# EAGLE library part PIC16F628A (library Custom)
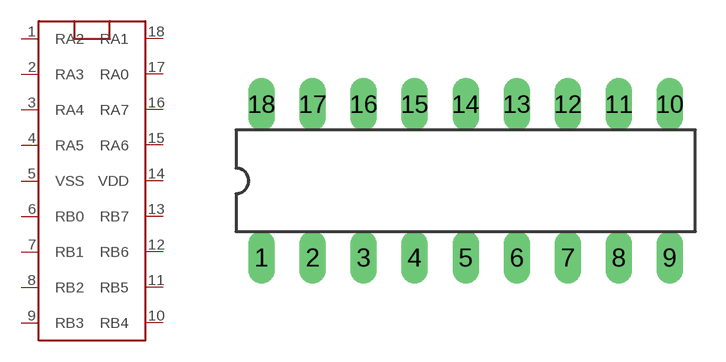
[diagram p2: symbol with the pads of DIL18; footprint DIL18]

Designator prefix -

## PIC16F628A  [DIL18]
1  RA2
2  RA3
3  RA4
4  RA5
5  VSS
6  RB0
7  RB1
8  RB2
9  RB3
10  RB4
11  RB5
12  RB6
13  RB7
14  VDD
15  RA6
16  RA7
17  RA0
18  RA1

## Footprint DIL18 (pad centres in mm)
drill 0.813 long: 1 -10.16,-3.81; 2 -7.62,-3.81; 3 -5.08,-3.81; 4 -2.54,-3.81; 5 0,-3.81; 6 2.54,-3.81; 7 5.08,-3.81; 8 7.62,-3.81; 9 10.16,-3.81; 10 10.16,3.81; 11 7.62,3.81; 12 5.08,3.81; 13 2.54,3.81; 14 0,3.81; 15 -2.54,3.81; 16 -5.08,3.81; 17 -7.62,3.81; 18 -10.16,3.81